# Altium footprint library 杂项库.PcbLib: 585 footprints (part 31 of 37)
Each footprint in its own frame and in the unit in brackets; x right, y up, seen from the top. Pads: shape width x height; smd on the part's side, far side on the other; paste and mask are expansions set on the pad; w line width, h text height; cw(c..) or ccw(c..) is an arc to the next point about the centre after c.
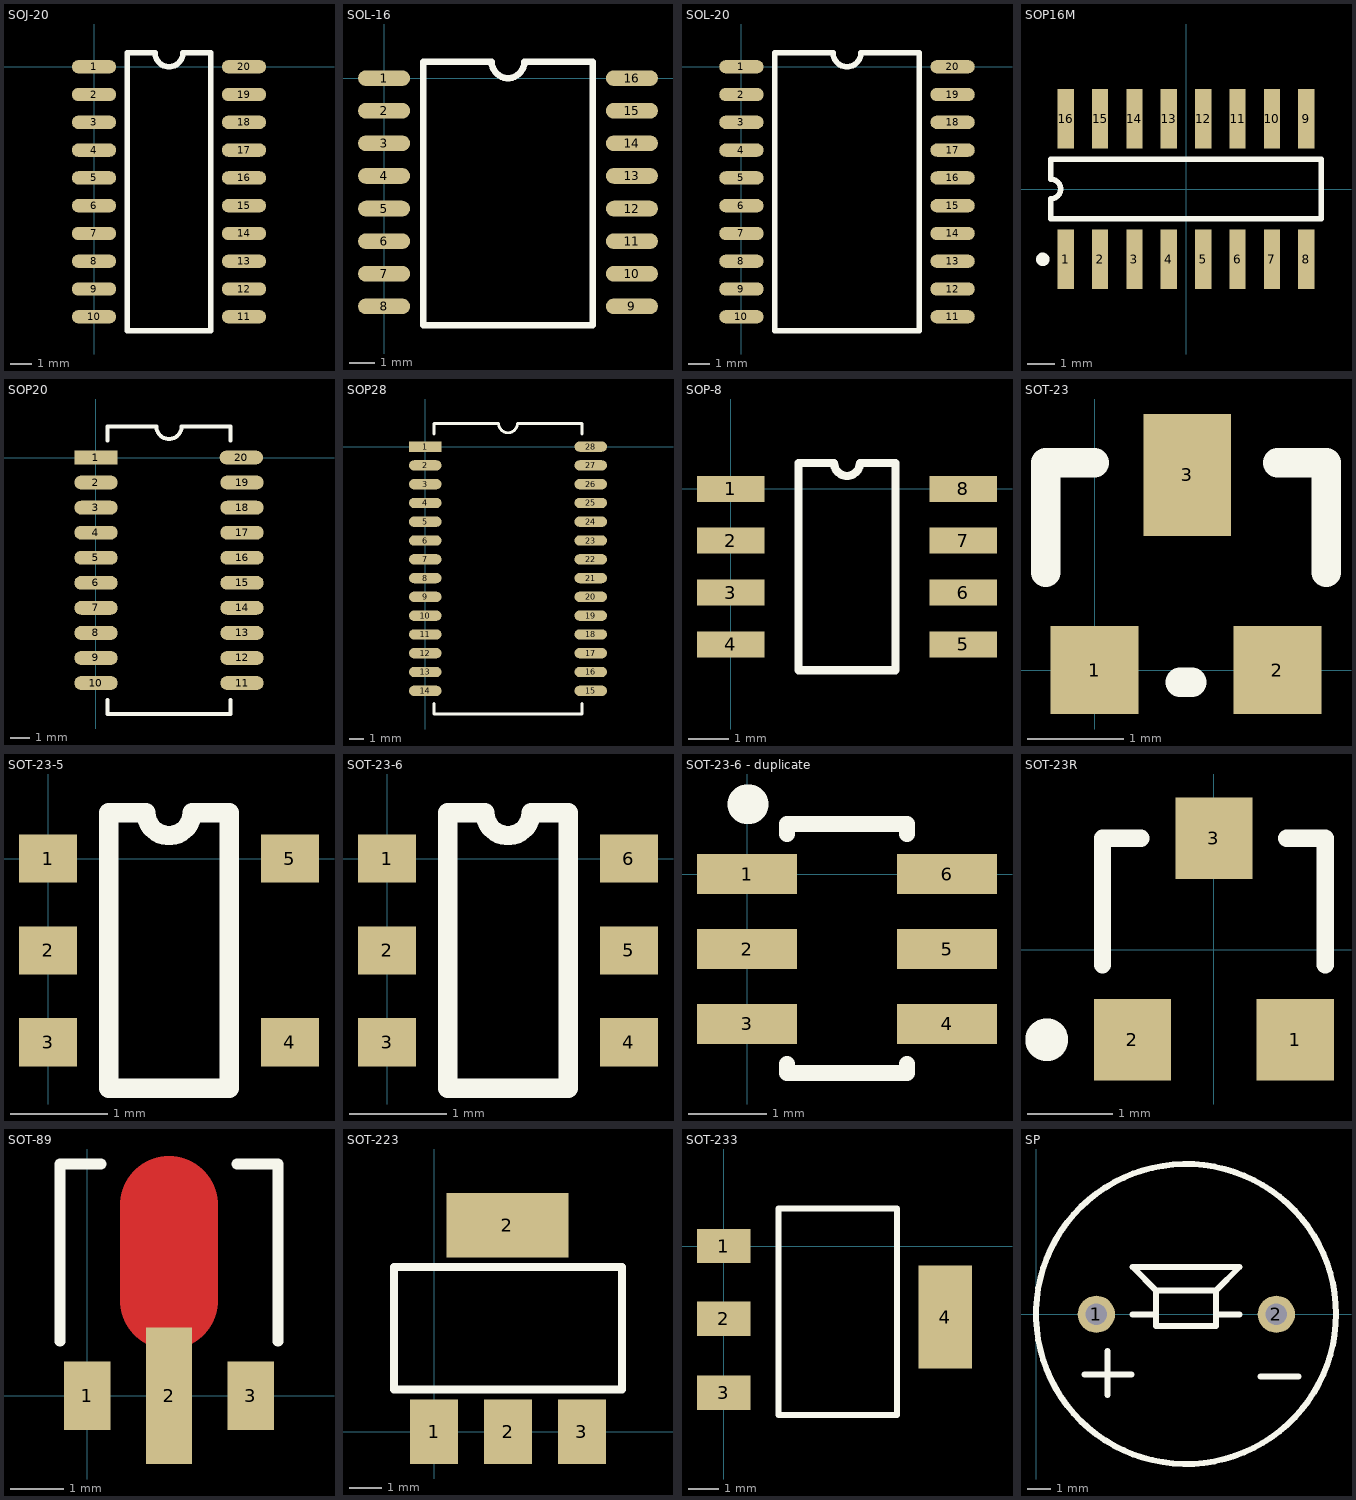
[diagram p30: the footprints below, top view; thin cyan lines are the x and y axes]

## SOJ-20 [mil]
pads (20):
  oval 80x24 smd: 1(0,0) 2(0,-50) 3(0,-100) 4(0,-150) 5(0,-200) 6(0,-250) 7(0,-300) 8(0,-350) 9(0,-400) 10(0,-450) 11(270,-450) 12(270,-400) 13(270,-350) 14(270,-300) 15(270,-250) 16(270,-200) 17(270,-150) 18(270,-100) 19(270,-50) 20(270,0)
Top Overlay:
  lines w10: 60,-475 60,25 110,25 ccw(c135,25) 160,25 210,25 210,-475 60,-475

## SOL-16 [mil]
pads (16):
  oval 80x24 smd: 1(0,0) 2(0,-50) 3(0,-100) 4(0,-150) 5(0,-200) 6(0,-250) 7(0,-300) 8(0,-350) 9(380,-350) 10(380,-300) 11(380,-250) 12(380,-200) 13(380,-150) 14(380,-100) 15(380,-50) 16(380,0)
Top Overlay:
  lines w10: 60,-379 320,-379 320,25 215,25 cw(c190,25) 165,25 60,25 60,-379

## SOL-20 [mil]
pads (20):
  oval 80x24 smd: 1(0,0) 2(0,-50) 3(0,-100) 4(0,-150) 5(0,-200) 6(0,-250) 7(0,-300) 8(0,-350) 9(0,-400) 10(0,-450) 11(380,-450) 12(380,-400) 13(380,-350) 14(380,-300) 15(380,-250) 16(380,-200) 17(380,-150) 18(380,-100) 19(380,-50) 20(380,0)
Top Overlay:
  lines w10: 60,-475 320,-475 320,25 215,25 cw(c190,25) 165,25 60,25 60,-475

## SOP16M [mm]
pads (16):
  rect 0.6x2.2 smd: 1(-4.445,-2.6) 2(-3.175,-2.6) 3(-1.905,-2.6) 4(-0.635,-2.6) 5(0.635,-2.6) 6(1.905,-2.6) 7(3.175,-2.6) 8(4.445,-2.6) 9(4.445,2.6) 10(3.175,2.6) 11(1.905,2.6) 12(0.635,2.6) 13(-0.635,2.6) 14(-1.905,2.6) 15(-3.175,2.6) 16(-4.445,2.6)
Top Overlay:
  circle w0.25: c-5.295,-2.6 r0.125
  lines w0.2: -5,-1.1 5,-1.1 5,1.1 -5,1.1 -5,0.367 cw(c-5,0) -5,-0.367 -5,-1.1

## SOP20 [mm]
pads (20):
  rect 2.2x0.7 smd: 1(0,0)
  oval 2.2x0.7 smd: 2(0,-1.27) 3(0,-2.54) 4(0,-3.81) 5(0,-5.08) 6(0,-6.35) 7(0,-7.62) 8(0,-8.89) 9(0,-10.16) 10(0,-11.43) 11(7.4,-11.43) 12(7.4,-10.16) 13(7.4,-8.89) 14(7.4,-7.62) 15(7.4,-6.35) 16(7.4,-5.08) 17(7.4,-3.81) 18(7.4,-2.54) 19(7.4,-1.27) 20(7.366,0)
Top Overlay:
  lines w0.2: 0.59,-12.28 0.59,-13 6.81,-13 6.81,-12.28 ; 0.59,0.85 0.59,1.57 3.065,1.57 ccw(c3.7,1.57) 4.335,1.57 6.81,1.57 6.81,0.85

## SOP28 [mm]
pads (28):
  rect 2.2x0.7 smd: 1(0,0)
  oval 2.2x0.7 smd: 2(0,-1.27) 3(0,-2.54) 4(0,-3.81) 5(0,-5.08) 6(0,-6.35) 7(0,-7.62) 8(0,-8.89) 9(0,-10.16) 10(0,-11.43) 11(0,-12.7) 12(0,-13.97) 13(0,-15.24) 14(0,-16.51) 15(11.2,-16.51) 16(11.2,-15.24) 17(11.2,-13.97) 18(11.2,-12.7) 19(11.2,-11.43) 20(11.2,-10.16) 21(11.2,-8.89) 22(11.2,-7.62) 23(11.2,-6.35) 24(11.2,-5.08) 25(11.2,-3.81) 26(11.2,-2.54) 27(11.2,-1.27) 28(11.2,0)
Top Overlay:
  lines w0.2: 0.585,-17.36 0.585,-18.08 10.615,-18.08 10.615,-17.36 ; 0.585,0.85 0.585,1.57 4.965,1.57 ccw(c5.6,1.57) 6.235,1.57 10.615,1.57 10.615,0.85

## SOP-8 [mil]
pads (8):
  rect 65x25 smd: 1(0,0) 2(0,-50) 3(0,-100) 4(0,-150) 5(224.41,-150) 6(224.41,-100) 7(224.41,-50) 8(224.41,0)
Top Overlay:
  lines w7.87: 65.37,-175 65.37,25 99.7,25 ccw(c112.2,25) 124.7,25 159.04,25 159.04,-175 65.37,-175

## SOT-23 [mil]
pads (3):
  rect 36x36 smd: 1(0,0) 2(75,0)
  rect 36x50 smd: 3(38,80)
Top Overlay:
  lines w12: -20,40 -20,85 0,85 ; 35,-5 40,-5 ; 75,85 95,85 95,40

## SOT-23-5 [mm]
pads (5):
  rect 0.6x0.5 smd: 1(0,0) 2(0,-0.95) 3(0,-1.9) 4(2.5,-1.9) 5(2.5,0)
Top Overlay:
  lines w0.2: 0.627,-2.375 1.873,-2.375 1.873,0.475 1.488,0.475 cw(c1.25,0.475) 1.013,0.475 0.627,0.475 0.627,-2.375

## SOT-23-6 [mm]
pads (6):
  rect 0.6x0.5 smd: 1(0,0) 2(0,-0.95) 3(0,-1.9) 4(2.5,-1.9) 5(2.5,-0.95) 6(2.5,0)
Top Overlay:
  lines w0.2: 0.627,-2.375 0.627,0.475 1.012,0.475 ccw(c1.25,0.475) 1.488,0.475 1.873,0.475 1.873,-2.375 0.627,-2.375

## SOT-23-6 - duplicate [mil]
pads (6):
  rect 50x20 smd: 1(0,0) 2(0,-37.4) 3(0,-74.8) 4(100,-74.8) 5(100,-37.4) 6(100,0)
Top Overlay:
  lines w8: 20,-95 20,-99.32 80,-99.32 80,-95 ; 20,20 20,25 80,25 80,20
  lines w19.68: 0,35 1,35

## SOT-23R [mm]
pads (3):
  rect 0.9x0.95 smd: 1(0.95,-1.048) 2(-0.95,-1.048) 3(0,1.302)
Top Overlay:
  circle w0.25: c-1.95,-1.048 r0.125
  lines w0.2: -1.3,-0.173 -1.3,1.302 -0.85,1.302 ; 0.85,1.302 1.3,1.302 1.3,-0.173

## SOT-89 [mil]
pads (3):
  rect 34x50 smd: 1(0,0) 3(120,0)
  rect 34x100 smd: 2(60,0)
Top Layer:
  lines w72: 60,70 60,140
Top Overlay:
  lines w8: -20,40 -20,170 10,170 ; 110,170 140,170 140,40
Top Solder:
  lines w80: 60,70 60,140

## SOT-223 [mil]
pads (4):
  rect 59x79 smd: 1(0,0) 2(90.55,0) 3(181.1,0)
  rect 150x79 smd: 2(89.88,253.54)
Top Overlay:
  lines w10: -49.45,52 230.55,52 230.55,202 -49.45,202 -49.45,52

## SOT-233 [mil]
pads (4):
  rect 70x45 smd: 1(0,0) 2(0,-95.04) 3(0,-192)
  rect 70x135 smd: 4(290.35,-92.95)
Top Overlay:
  lines w8: 71.65,-221.02 226.65,-221.02 226.65,48.98 71.65,48.98 71.65,-221.02

## SP [mil]
pads (2):
  round 62 hole 36: 1(100,0) 2(400,0)
Top Overlay:
  circle w10: c249.45,0.43 r250
  lines w10: 80.55,-100.47 158.94,-100.47 ; 118.66,-134.69 118.66,-61.06 ; 160.39,-0.43 199.76,-0.43 ; 299.21,0 338.58,0 ; 373.74,-103.94 436.97,-103.94 ; 199.76,39.37 160.67,78.82 338.58,78.74 299.21,39.37 ; 199.76,39.37 199.76,-19.68 299.21,-19.68 299.21,39.37 ; 199.76,39.37 299.21,39.37